# EAGLE library part QTR-8A (library QTR-8A)
Check availability <https://pricing.snapeda.com/parts/QTR-8A/Pololu/view-part?ref=eda>
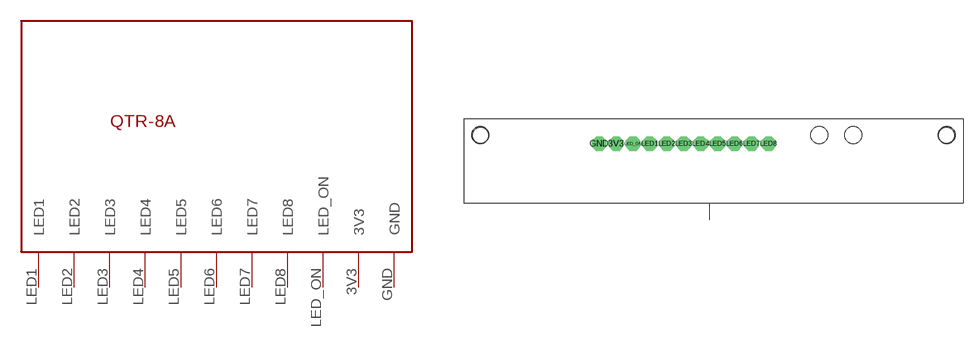
[diagram p0: symbol with the pads of QTR-8A; footprint QTR-8A]

Designator prefix -

## QTR-8A (Availability: Not in stock; Check_prices: https://www.snapeda.com/parts/QTR-8A/Pololu/view-part/?ref=eda; Description: QRE1113GR series Phototransistor Sensor Evaluation Board; MF: Pololu; MP: QTR-8A; Package: None; Price: None; SnapEDA_Link: https://www.snapeda.com/parts/QTR-8A/Pololu/view-part/?ref=snap)  [QTR-8A]
3V3  3V3
GND  GND
LED1  LED1
LED2  LED2
LED3  LED3
LED4  LED4
LED5  LED5
LED6  LED6
LED7  LED7
LED8  LED8
LED_ON  LED_ON

## Footprint QTR-8A (pad centres in mm)
drill 1 pad 2.184 octagon: 3V3 -30.48,-1.27; GND -33.02,-1.27; LED1 -25.4,-1.27; LED2 -22.86,-1.27; LED3 -20.32,-1.27; LED4 -17.78,-1.27; LED5 -15.24,-1.27; LED6 -12.7,-1.27; LED7 -10.16,-1.27; LED8 -7.62,-1.27; LED_ON -27.94,-1.27
hole 2.286 at -50.8,0
hole 2.286 at 19.05,0